# Altium footprint library WR-PHD_Pin Header.PcbLib: 232 footprints (part 4 of 15)
Each footprint in its own frame and in the unit in brackets; x right, y up, seen from the top. Pads: shape width x height; smd on the part's side, far side on the other; paste and mask are expansions set on the pad; w line width, h text height; cw(c..) or ccw(c..) is an arc to the next point about the centre after c.
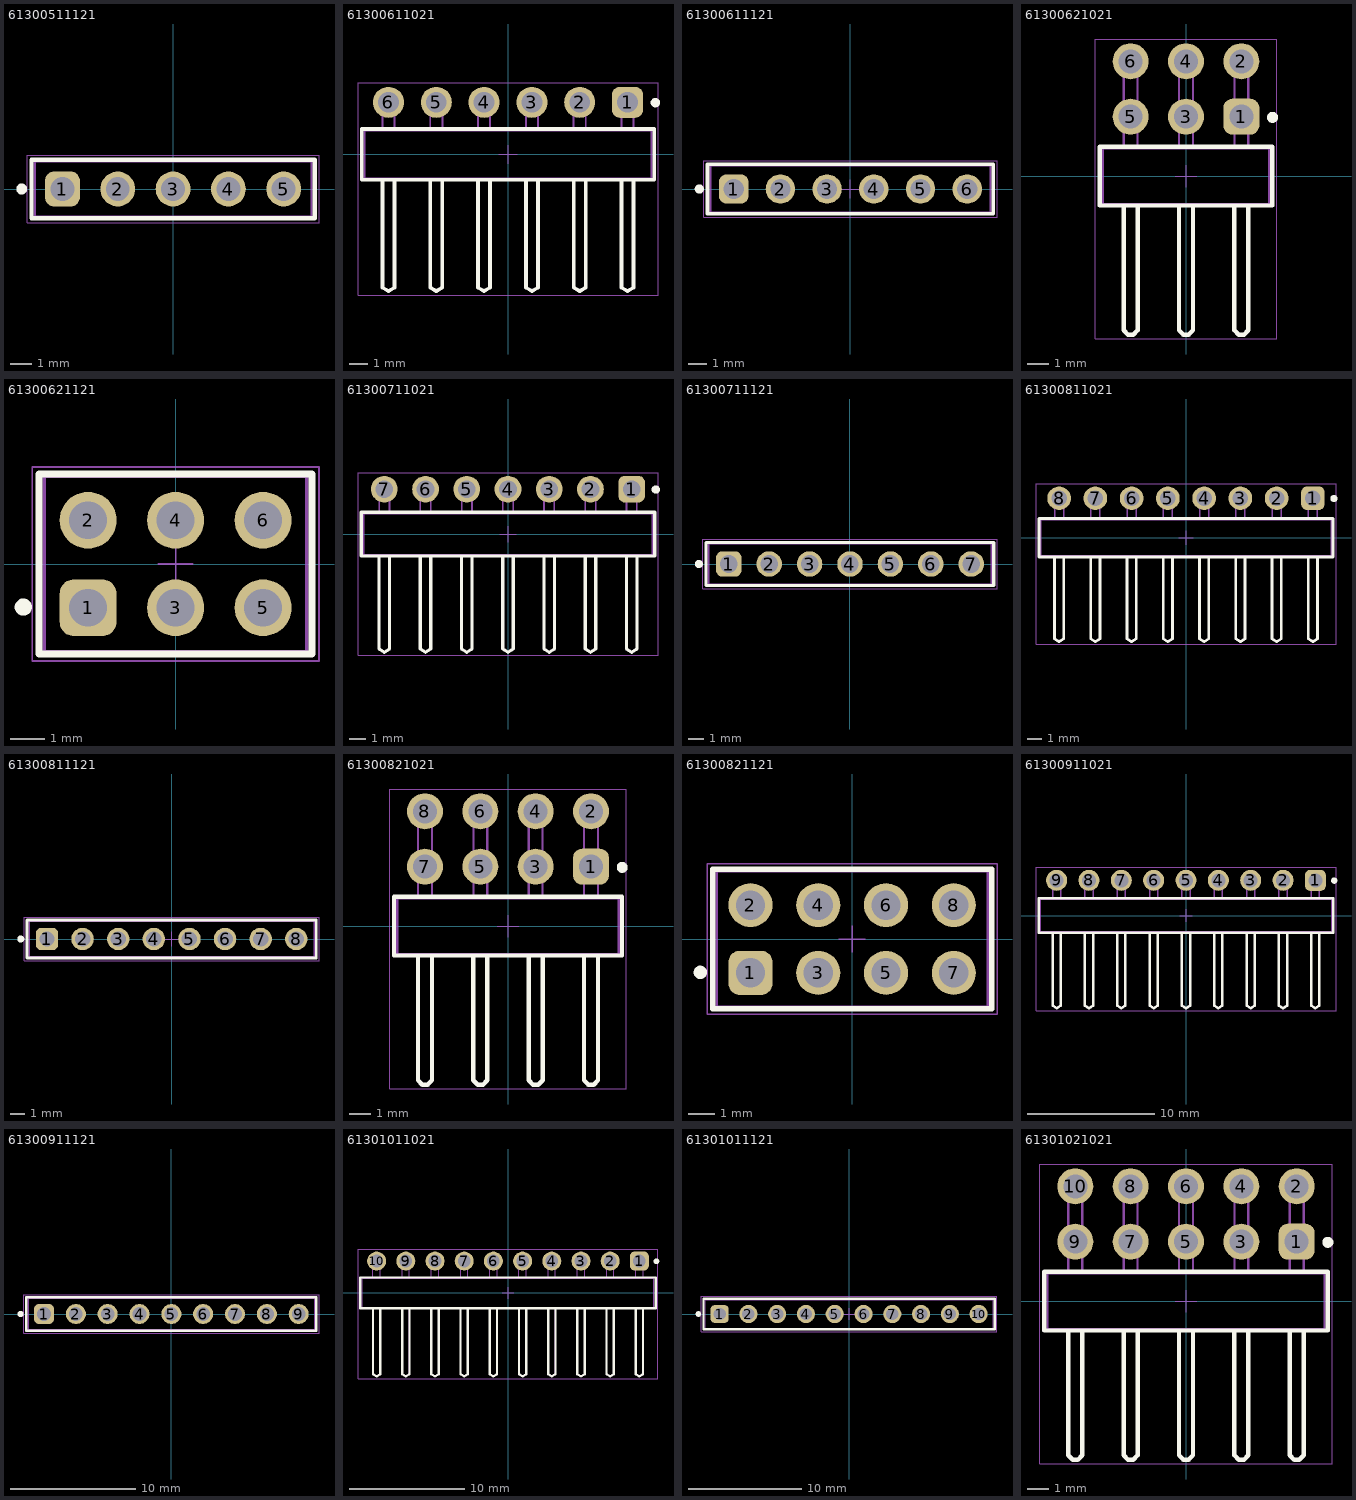
[diagram p3: the footprints below, top view; thin cyan lines are the x and y axes]

## 61300511121 [mm] "Pin Header, pitch 2.54 mm, THT, Vertical, single row, 5p"
height 8.54
pads (5):
  rrect50% 1.6x1.6 hole 1.1: 1(-5.08,0)
  round 1.6 hole 1.1: 2(-2.54,0) 3(0,0) 4(2.54,0) 5(5.08,0)
Top Overlay:
  circle w0.25: c-6.95,0 r0.125
  lines w0.2: -6.5,-1.345 6.5,-1.345 6.5,1.345 -6.5,1.345 -6.5,-1.345
Top Designator:
  text ".Designator" at -7.498,-0.5 h1.5
Top Component Outline:
  lines w0.1: -6.35,-1.27 -6.35,1.27 6.35,1.27 6.35,-1.27 -6.35,-1.27
Top Courtyard:
  lines w0.05: -6.7,-1.545 -6.7,1.545 6.7,1.545 6.7,-1.545 -6.7,-1.545
Top Component Center:
  lines w0.05: -0.5,0 0.5,0 ; 0,-0.5 0,0.5
3D body "61300511121.stp": height 8.57, standoff -2.97, extent -6.35,-1.27 6.35,1.27

## 61300611021 [mm] "Pin Header, pitch 2.54 mm, THT, Angled, single row, 6p"
height 2.54
pads (6):
  rrect50% 1.65x1.65 hole 1.1: 1(6.35,2.77)
  round 1.65 hole 1.1: 2(3.81,2.77) 3(1.27,2.77) 4(-1.27,2.77) 5(-3.81,2.77) 6(-6.35,2.77)
Top Overlay:
  circle w0.25: c7.83,2.75 r0.125
  lines w0.2: -6.67,-1.345 -6.67,-7.07 -6.35,-7.27 -6.03,-7.07 -6.03,-1.345 ; -4.13,-1.345 -4.13,-7.07 -3.81,-7.27 -3.49,-7.07 -3.49,-1.345 ; -1.59,-1.345 -1.59,-7.07 -1.27,-7.27 -0.95,-7.07 -0.95,-1.345 ; 0.95,-1.345 0.95,-7.07 1.27,-7.27 1.59,-7.07 1.59,-1.345 ; 3.49,-1.345 3.49,-7.07 3.81,-7.27 4.13,-7.07 4.13,-1.345 ; 6.03,-1.345 6.03,-7.07 6.35,-7.27 6.67,-7.07 6.67,-1.345 ; -7.77,-1.345 7.77,-1.345 7.77,1.345 -7.77,1.345 -7.77,-1.345
Top Designator:
  text ".Designator" at -7.498,-0.5 h1.5
Top Component Outline:
  lines w0.1: -6.67,-1.27 -6.67,-7.07 -6.35,-7.27 -6.03,-7.07 -6.03,-1.27 ; -6.67,1.27 -6.67,3.09 -6.03,3.09 -6.03,1.27 ; -4.13,-1.27 -4.13,-7.07 -3.81,-7.27 -3.49,-7.07 -3.49,-1.27 ; -4.13,1.27 -4.13,3.09 -3.49,3.09 -3.49,1.27 ; -1.59,-1.27 -1.59,-7.07 -1.27,-7.27 -0.95,-7.07 -0.95,-1.27 ; -1.59,1.27 -1.59,3.09 -0.95,3.09 -0.95,1.27 ; 0.95,-1.27 0.95,-7.07 1.27,-7.27 1.59,-7.07 1.59,-1.27 ; 0.95,1.27 0.95,3.09 1.59,3.09 1.59,1.27 ; 3.49,-1.27 3.49,-7.07 3.81,-7.27 4.13,-7.07 4.13,-1.27 ; 3.49,1.27 3.49,3.09 4.13,3.09 4.13,1.27 ; 6.03,-1.27 6.03,-7.07 6.35,-7.27 6.67,-7.07 6.67,-1.27 ; 6.03,1.27 6.03,3.09 6.67,3.09 6.67,1.27 ; -7.62,-1.27 7.62,-1.27 7.62,1.27 -7.62,1.27 -7.62,-1.27
Top Courtyard:
  lines w0.05: -7.97,-7.47 7.97,-7.47 7.97,3.795 -7.97,3.795 -7.97,-7.47
Top Component Center:
  lines w0.05: -0.5,0 0.5,0 ; 0,-0.5 0,0.5
3D body "61300611021.stp": height 2.58, standoff -2.96, extent -7.62,-7.27 7.62,3.09

## 61300611121 [mm] "Pin Header, pitch 2.54 mm, THT, Vertical, single row, 6p"
height 8.54
pads (6):
  rrect50% 1.6x1.6 hole 1.1: 1(-6.35,0)
  round 1.6 hole 1.1: 2(-3.81,0) 3(-1.27,0) 4(1.27,0) 5(3.81,0) 6(6.35,0)
Top Overlay:
  circle w0.25: c-8.22,0 r0.125
  lines w0.2: -7.77,-1.345 -7.77,1.345 7.77,1.345 7.77,-1.345 -7.77,-1.345
Top Designator:
  text ".Designator" at -7.498,-0.5 h1.5
Top Component Outline:
  lines w0.1: -7.62,-1.27 7.62,-1.27 7.62,1.27 -7.62,1.27 -7.62,-1.27
Top Courtyard:
  lines w0.05: -7.97,-1.545 7.97,-1.545 7.97,1.545 -7.97,1.545 -7.97,-1.545
Top Component Center:
  lines w0.05: -0.5,0 0.5,0 ; 0,-0.5 0,0.5
3D body "61300611121.stp": height 8.57, standoff -2.97, extent -7.62,-1.27 7.62,1.27

## 61300621021 [mm] "Pin Header, pitch 2.54 mm, THT, Angled, dual row, 6p"
height 5.08
pads (6):
  rrect50% 1.65x1.65 hole 1.1: 1(2.54,2.73)
  round 1.65 hole 1.1: 2(2.54,5.27) 3(0,2.73) 4(0,5.27) 5(-2.54,2.73) 6(-2.54,5.27)
Top Overlay:
  circle w0.25: c3.97,2.7 r0.125
  lines w0.2: -2.86,-1.345 -2.86,-7.07 -2.66,-7.27 -2.42,-7.27 -2.22,-7.07 -2.22,-1.345 ; -0.32,-1.345 -0.32,-7.07 -0.12,-7.27 0.12,-7.27 0.32,-7.07 0.32,-1.345 ; 2.22,-1.345 2.22,-7.07 2.42,-7.27 2.66,-7.27 2.86,-7.07 2.86,-1.345 ; -3.96,-1.345 3.96,-1.345 3.96,1.345 -3.96,1.345 -3.96,-1.345
Top Designator:
  text ".Designator" at -7.498,-0.5 h1.5
Top Component Outline:
  lines w0.1: -2.86,-1.27 -2.86,-7.07 -2.66,-7.27 -2.42,-7.27 -2.22,-7.07 -2.22,-1.27 ; -2.86,1.27 -2.86,5.63 -2.22,5.63 -2.22,1.27 ; -2.86,3.09 -2.22,3.09 ; -0.32,-1.27 -0.32,-7.07 -0.12,-7.27 0.12,-7.27 0.32,-7.07 0.32,-1.27 ; -0.32,1.27 -0.32,5.63 0.32,5.63 0.32,1.27 ; -0.32,3.09 0.32,3.09 ; 2.22,-1.27 2.22,-7.07 2.42,-7.27 2.66,-7.27 2.86,-7.07 2.86,-1.27 ; 2.22,1.27 2.22,5.63 2.86,5.63 2.86,1.27 ; 2.22,3.09 2.86,3.09 ; -3.81,-1.27 -3.81,1.27 3.81,1.27 3.81,-1.27 -3.81,-1.27
Top Courtyard:
  lines w0.05: -4.16,-7.47 4.16,-7.47 4.16,6.295 -4.16,6.295 -4.16,-7.47
Top Component Center:
  lines w0.05: -0.5,0 0.5,0 ; 0,-0.5 0,0.5
3D body "61300621021.stp": height 5.12, standoff -2.96, extent -3.81,-7.27 3.81,5.63

## 61300621121 [mm] "Pin Header, pitch 2.54 mm, THT, Vertical, dual row, 6p"
height 8.54
pads (6):
  rrect50% 1.65x1.65 hole 1.1: 1(-2.54,-1.27)
  round 1.65 hole 1.1: 2(-2.54,1.27) 3(0,-1.27) 4(0,1.27) 5(2.54,-1.27) 6(2.54,1.27)
Top Overlay:
  circle w0.25: c-4.42,-1.25 r0.125
  lines w0.2: -3.96,-2.615 -3.96,2.615 3.96,2.615 3.96,-2.615 -3.96,-2.615
Top Designator:
  text ".Designator" at -7.498,-0.5 h1.5
Top Component Outline:
  lines w0.1: -3.81,-2.54 -3.81,2.54 3.81,2.54 3.81,-2.54 -3.81,-2.54
Top Courtyard:
  lines w0.05: -4.16,-2.815 4.16,-2.815 4.16,2.815 -4.16,2.815 -4.16,-2.815
Top Component Center:
  lines w0.05: -0.5,0 0.5,0 ; 0,-0.5 0,0.5
3D body "61300621121.stp": height 8.59, standoff -2.95, extent -3.81,-2.54 3.81,2.54

## 61300711021 [mm] "Pin Header, pitch 2.54 mm, THT, Angled, single row, 7p"
height 2.54
pads (7):
  rrect50% 1.65x1.65 hole 1.1: 1(7.62,2.77)
  round 1.65 hole 1.1: 2(5.08,2.77) 3(2.54,2.77) 4(0,2.77) 5(-2.54,2.77) 6(-5.08,2.77) 7(-7.62,2.77)
Top Overlay:
  circle w0.25: c9.1,2.75 r0.125
  lines w0.2: -7.94,-1.345 -7.94,-7.07 -7.62,-7.27 -7.3,-7.07 -7.3,-1.345 ; -5.4,-1.345 -5.4,-7.07 -5.08,-7.27 -4.76,-7.07 -4.76,-1.345 ; -2.86,-1.345 -2.86,-7.07 -2.54,-7.27 -2.22,-7.07 -2.22,-1.345 ; -0.32,-1.345 -0.32,-7.07 0,-7.27 0.32,-7.07 0.32,-1.345 ; 2.22,-1.345 2.22,-7.07 2.54,-7.27 2.86,-7.07 2.86,-1.345 ; 4.76,-1.345 4.76,-7.07 5.08,-7.27 5.4,-7.07 5.4,-1.345 ; 7.3,-1.345 7.3,-7.07 7.62,-7.27 7.94,-7.07 7.94,-1.345 ; -9.04,-1.345 -9.04,1.345 9.04,1.345 9.04,-1.345 -9.04,-1.345
Top Designator:
  text ".Designator" at -7.498,-0.5 h1.5
Top Component Outline:
  lines w0.1: -7.94,-1.27 -7.94,-7.07 -7.62,-7.27 -7.3,-7.07 -7.3,-1.27 ; -7.94,1.27 -7.94,3.09 -7.3,3.09 -7.3,1.27 ; -5.4,-1.27 -5.4,-7.07 -5.08,-7.27 -4.76,-7.07 -4.76,-1.27 ; -5.4,1.27 -5.4,3.09 -4.76,3.09 -4.76,1.27 ; -2.86,-1.27 -2.86,-7.07 -2.54,-7.27 -2.22,-7.07 -2.22,-1.27 ; -2.86,1.27 -2.86,3.09 -2.22,3.09 -2.22,1.27 ; -0.32,-1.27 -0.32,-7.07 0,-7.27 0.32,-7.07 0.32,-1.27 ; -0.32,1.27 -0.32,3.09 0.32,3.09 0.32,1.27 ; 2.22,-1.27 2.22,-7.07 2.54,-7.27 2.86,-7.07 2.86,-1.27 ; 2.22,1.27 2.22,3.09 2.86,3.09 2.86,1.27 ; 4.76,-1.27 4.76,-7.07 5.08,-7.27 5.4,-7.07 5.4,-1.27 ; 4.76,1.27 4.76,3.09 5.4,3.09 5.4,1.27 ; 7.3,-1.27 7.3,-7.07 7.62,-7.27 7.94,-7.07 7.94,-1.27 ; 7.3,1.27 7.3,3.09 7.94,3.09 7.94,1.27 ; -8.89,-1.27 -8.89,1.27 8.89,1.27 8.89,-1.27 -8.89,-1.27
Top Courtyard:
  lines w0.05: -9.24,-7.47 -9.24,3.795 9.24,3.795 9.24,-7.47 -9.24,-7.47
Top Component Center:
  lines w0.05: -0.5,0 0.5,0 ; 0,-0.5 0,0.5
3D body "61300711021.stp": height 2.58, standoff -2.96, extent -8.89,-7.27 8.89,3.09

## 61300711121 [mm] "Pin Header, pitch 2.54 mm, THT, Vertical, single row, 7p"
height 8.54
pads (7):
  rrect50% 1.6x1.6 hole 1.1: 1(-7.62,0)
  round 1.6 hole 1.1: 2(-5.08,0) 3(-2.54,0) 4(0,0) 5(2.54,0) 6(5.08,0) 7(7.62,0)
Top Overlay:
  circle w0.25: c-9.49,0 r0.125
  lines w0.2: -9.04,-1.345 -9.04,1.345 9.04,1.345 9.04,-1.345 -9.04,-1.345
Top Designator:
  text ".Designator" at -7.498,-0.5 h1.5
Top Component Outline:
  lines w0.1: -8.89,-1.27 8.89,-1.27 8.89,1.27 -8.89,1.27 -8.89,-1.27
Top Courtyard:
  lines w0.05: -9.24,-1.545 9.24,-1.545 9.24,1.545 -9.24,1.545 -9.24,-1.545
Top Component Center:
  lines w0.05: -0.5,0 0.5,0 ; 0,-0.5 0,0.5
3D body "61300711121.stp": height 8.57, standoff -2.97, extent -8.89,-1.27 8.89,1.27

## 61300811021 [mm] "Pin Header, pitch 2.54 mm, THT, Angled, single row, 8p"
height 2.54
pads (8):
  rrect50% 1.65x1.65 hole 1.1: 1(8.89,2.77)
  round 1.65 hole 1.1: 2(6.35,2.77) 3(3.81,2.77) 4(1.27,2.77) 5(-1.27,2.77) 6(-3.81,2.77) 7(-6.35,2.77) 8(-8.89,2.77)
Top Overlay:
  circle w0.25: c10.37,2.75 r0.125
  lines w0.2: -9.21,-1.345 -9.21,-7.07 -8.89,-7.27 -8.57,-7.07 -8.57,-1.345 ; -6.67,-1.345 -6.67,-7.07 -6.35,-7.27 -6.03,-7.07 -6.03,-1.345 ; -4.13,-1.345 -4.13,-7.07 -3.81,-7.27 -3.49,-7.07 -3.49,-1.345 ; -1.59,-1.345 -1.59,-7.07 -1.27,-7.27 -0.95,-7.07 -0.95,-1.345 ; 0.95,-1.345 0.95,-7.07 1.27,-7.27 1.59,-7.07 1.59,-1.345 ; 3.49,-1.345 3.49,-7.07 3.81,-7.27 4.13,-7.07 4.13,-1.345 ; 6.03,-1.345 6.03,-7.07 6.35,-7.27 6.67,-7.07 6.67,-1.345 ; 8.57,-1.345 8.57,-7.07 8.89,-7.27 9.21,-7.07 9.21,-1.345 ; -10.31,-1.345 -10.31,1.345 10.31,1.345 10.31,-1.345 -10.31,-1.345
Top Designator:
  text ".Designator" at -7.498,-0.5 h1.5
Top Component Outline:
  lines w0.1: -9.21,-1.27 -9.21,-7.07 -8.89,-7.27 -8.57,-7.07 -8.57,-1.27 ; -9.21,1.27 -9.21,3.09 -8.57,3.09 -8.57,1.27 ; -6.67,-1.27 -6.67,-7.07 -6.35,-7.27 -6.03,-7.07 -6.03,-1.27 ; -6.67,1.27 -6.67,3.09 -6.03,3.09 -6.03,1.27 ; -4.13,-1.27 -4.13,-7.07 -3.81,-7.27 -3.49,-7.07 -3.49,-1.27 ; -4.13,1.27 -4.13,3.09 -3.49,3.09 -3.49,1.27 ; -1.59,-1.27 -1.59,-7.07 -1.27,-7.27 -0.95,-7.07 -0.95,-1.27 ; -1.59,1.27 -1.59,3.09 -0.95,3.09 -0.95,1.27 ; 0.95,-1.27 0.95,-7.07 1.27,-7.27 1.59,-7.07 1.59,-1.27 ; 0.95,1.27 0.95,3.09 1.59,3.09 1.59,1.27 ; 3.49,-1.27 3.49,-7.07 3.81,-7.27 4.13,-7.07 4.13,-1.27 ; 3.49,1.27 3.49,3.09 4.13,3.09 4.13,1.27 ; 6.03,-1.27 6.03,-7.07 6.35,-7.27 6.67,-7.07 6.67,-1.27 ; 6.03,1.27 6.03,3.09 6.67,3.09 6.67,1.27 ; 8.57,-1.27 8.57,-7.07 8.89,-7.27 9.21,-7.07 9.21,-1.27 ; 8.57,1.27 8.57,3.09 9.21,3.09 9.21,1.27 ; -10.16,-1.27 -10.16,1.27 10.16,1.27 10.16,-1.27 -10.16,-1.27
Top Courtyard:
  lines w0.05: -10.51,-7.47 -10.51,3.795 10.51,3.795 10.51,-7.47 -10.51,-7.47
Top Component Center:
  lines w0.05: -0.5,0 0.5,0 ; 0,-0.5 0,0.5
3D body "61300811021.stp": height 2.58, standoff -2.96, extent -10.16,-7.27 10.16,3.09

## 61300811121 [mm] "Pin Header, pitch 2.54 mm, THT, Vertical, single row, 8p"
height 8.54
pads (8):
  rrect50% 1.6x1.6 hole 1.1: 1(-8.89,0)
  round 1.6 hole 1.1: 2(-6.35,0) 3(-3.81,0) 4(-1.27,0) 5(1.27,0) 6(3.81,0) 7(6.35,0) 8(8.89,0)
Top Overlay:
  circle w0.25: c-10.76,0 r0.125
  lines w0.2: -10.31,-1.345 -10.31,1.345 10.31,1.345 10.31,-1.345 -10.31,-1.345
Top Designator:
  text ".Designator" at -7.498,-0.5 h1.5
Top Component Outline:
  lines w0.1: -10.16,-1.27 10.16,-1.27 10.16,1.27 -10.16,1.27 -10.16,-1.27
Top Courtyard:
  lines w0.05: -10.51,-1.545 10.51,-1.545 10.51,1.545 -10.51,1.545 -10.51,-1.545
Top Component Center:
  lines w0.05: -0.5,0 0.5,0 ; 0,-0.5 0,0.5
3D body "61300811121.stp": height 8.57, standoff -2.97, extent -10.16,-1.27 10.16,1.27

## 61300821021 [mm] "Pin Header, pitch 2.54 mm, THT, Angled, dual row, 8p"
height 5.08
pads (8):
  rrect50% 1.65x1.65 hole 1.1: 1(3.81,2.73)
  round 1.65 hole 1.1: 2(3.81,5.27) 3(1.27,2.73) 4(1.27,5.27) 5(-1.27,2.73) 6(-1.27,5.27) 7(-3.81,2.73) 8(-3.81,5.27)
Top Overlay:
  circle w0.25: c5.24,2.7 r0.125
  lines w0.2: -4.13,-1.345 -4.13,-7.07 -3.93,-7.27 -3.69,-7.27 -3.49,-7.07 -3.49,-1.345 ; -1.59,-1.345 -1.59,-7.07 -1.39,-7.27 -1.15,-7.27 -0.95,-7.07 -0.95,-1.345 ; 0.95,-1.345 0.95,-7.07 1.15,-7.27 1.39,-7.27 1.59,-7.07 1.59,-1.345 ; 3.49,-1.345 3.49,-7.07 3.69,-7.27 3.93,-7.27 4.13,-7.07 4.13,-1.345 ; -5.23,-1.345 5.23,-1.345 5.23,1.345 -5.23,1.345 -5.23,-1.345
Top Designator:
  text ".Designator" at -7.498,-0.5 h1.5
Top Component Outline:
  lines w0.1: -4.13,-1.27 -4.13,-7.07 -3.93,-7.27 -3.69,-7.27 -3.49,-7.07 -3.49,-1.27 ; -4.13,1.27 -4.13,5.63 -3.49,5.63 -3.49,1.27 ; -4.13,3.09 -3.49,3.09 ; -1.59,-1.27 -1.59,-7.07 -1.39,-7.27 -1.15,-7.27 -0.95,-7.07 -0.95,-1.27 ; -1.59,1.27 -1.59,5.63 -0.95,5.63 -0.95,1.27 ; -1.59,3.09 -0.95,3.09 ; 0.95,-1.27 0.95,-7.07 1.15,-7.27 1.39,-7.27 1.59,-7.07 1.59,-1.27 ; 0.95,1.27 0.95,5.63 1.59,5.63 1.59,1.27 ; 0.95,3.09 1.59,3.09 ; 3.49,-1.27 3.49,-7.07 3.69,-7.27 3.93,-7.27 4.13,-7.07 4.13,-1.27 ; 3.49,1.27 3.49,5.63 4.13,5.63 4.13,1.27 ; 3.49,3.09 4.13,3.09 ; -5.08,-1.27 5.08,-1.27 5.08,1.27 -5.08,1.27 -5.08,-1.27
Top Courtyard:
  lines w0.05: -5.43,-7.47 5.43,-7.47 5.43,6.295 -5.43,6.295 -5.43,-7.47
Top Component Center:
  lines w0.05: -0.5,0 0.5,0 ; 0,-0.5 0,0.5
3D body "61300821021.stp": height 5.12, standoff -2.96, extent -5.08,-7.27 5.08,5.63

## 61300821121 [mm] "Pin Header, pitch 2.54 mm, THT, Vertical, dual row, 8p"
height 8.54
pads (8):
  rrect50% 1.65x1.65 hole 1.1: 1(-3.81,-1.27)
  round 1.65 hole 1.1: 2(-3.81,1.27) 3(-1.27,-1.27) 4(-1.27,1.27) 5(1.27,-1.27) 6(1.27,1.27) 7(3.81,-1.27) 8(3.81,1.27)
Top Overlay:
  circle w0.25: c-5.69,-1.25 r0.125
  lines w0.2: -5.23,-2.615 -5.23,2.615 5.23,2.615 5.23,-2.615 -5.23,-2.615
Top Designator:
  text ".Designator" at -7.498,-0.5 h1.5
Top Component Outline:
  lines w0.1: -5.08,-2.54 -5.08,2.54 5.08,2.54 5.08,-2.54 -5.08,-2.54
Top Courtyard:
  lines w0.05: -5.43,-2.815 5.43,-2.815 5.43,2.815 -5.43,2.815 -5.43,-2.815
Top Component Center:
  lines w0.05: -0.5,0 0.5,0 ; 0,-0.5 0,0.5
3D body "61300821121.stp": height 8.59, standoff -2.95, extent -5.08,-2.54 5.08,2.54

## 61300911021 [mm] "Pin Header, pitch 2.54 mm, THT, Angled, single row, 9p"
height 2.54
pads (9):
  rrect50% 1.65x1.65 hole 1.1: 1(10.16,2.77)
  round 1.65 hole 1.1: 2(7.62,2.77) 3(5.08,2.77) 4(2.54,2.77) 5(0,2.77) 6(-2.54,2.77) 7(-5.08,2.77) 8(-7.62,2.77) 9(-10.16,2.77)
Top Overlay:
  circle w0.25: c11.64,2.75 r0.125
  lines w0.2: -10.48,-1.345 -10.48,-7.07 -10.16,-7.27 -9.84,-7.07 -9.84,-1.345 ; -7.94,-1.345 -7.94,-7.07 -7.62,-7.27 -7.3,-7.07 -7.3,-1.345 ; -5.4,-1.345 -5.4,-7.07 -5.08,-7.27 -4.76,-7.07 -4.76,-1.345 ; -2.86,-1.345 -2.86,-7.07 -2.54,-7.27 -2.22,-7.07 -2.22,-1.345 ; -0.32,-1.345 -0.32,-7.07 0,-7.27 0.32,-7.07 0.32,-1.345 ; 2.22,-1.345 2.22,-7.07 2.54,-7.27 2.86,-7.07 2.86,-1.345 ; 4.76,-1.345 4.76,-7.07 5.08,-7.27 5.4,-7.07 5.4,-1.345 ; 7.3,-1.345 7.3,-7.07 7.62,-7.27 7.94,-7.07 7.94,-1.345 ; 9.84,-1.345 9.84,-7.07 10.16,-7.27 10.48,-7.07 10.48,-1.345 ; -11.58,-1.345 11.58,-1.345 11.58,1.345 -11.58,1.345 -11.58,-1.345
Top Designator:
  text ".Designator" at -7.498,-0.5 h1.5
Top Component Outline:
  lines w0.1: -10.48,-1.27 -10.48,-7.07 -10.16,-7.27 -9.84,-7.07 -9.84,-1.27 ; -10.48,1.27 -10.48,3.09 -9.84,3.09 -9.84,1.27 ; -7.94,-1.27 -7.94,-7.07 -7.62,-7.27 -7.3,-7.07 -7.3,-1.27 ; -7.94,1.27 -7.94,3.09 -7.3,3.09 -7.3,1.27 ; -5.4,-1.27 -5.4,-7.07 -5.08,-7.27 -4.76,-7.07 -4.76,-1.27 ; -5.4,1.27 -5.4,3.09 -4.76,3.09 -4.76,1.27 ; -2.86,-1.27 -2.86,-7.07 -2.54,-7.27 -2.22,-7.07 -2.22,-1.27 ; -2.86,1.27 -2.86,3.09 -2.22,3.09 -2.22,1.27 ; -0.32,-1.27 -0.32,-7.07 0,-7.27 0.32,-7.07 0.32,-1.27 ; -0.32,1.27 -0.32,3.09 0.32,3.09 0.32,1.27 ; 2.22,-1.27 2.22,-7.07 2.54,-7.27 2.86,-7.07 2.86,-1.27 ; 2.22,1.27 2.22,3.09 2.86,3.09 2.86,1.27 ; 4.76,-1.27 4.76,-7.07 5.08,-7.27 5.4,-7.07 5.4,-1.27 ; 4.76,1.27 4.76,3.09 5.4,3.09 5.4,1.27 ; 7.3,-1.27 7.3,-7.07 7.62,-7.27 7.94,-7.07 7.94,-1.27 ; 7.3,1.27 7.3,3.09 7.94,3.09 7.94,1.27 ; 9.84,-1.27 9.84,-7.07 10.16,-7.27 10.48,-7.07 10.48,-1.27 ; 9.84,1.27 9.84,3.09 10.48,3.09 10.48,1.27 ; -11.43,-1.27 11.43,-1.27 11.43,1.27 -11.43,1.27 -11.43,-1.27
Top Courtyard:
  lines w0.05: -11.78,-7.47 11.78,-7.47 11.78,3.795 -11.78,3.795 -11.78,-7.47
Top Component Center:
  lines w0.05: -0.5,0 0.5,0 ; 0,-0.5 0,0.5
3D body "61300911021.stp": height 2.58, standoff -2.96, extent -11.43,-7.27 11.43,3.09

## 61300911121 [mm] "Pin Header, pitch 2.54 mm, THT, Vertical, single row, 9p"
height 8.54
pads (9):
  rrect50% 1.6x1.6 hole 1.1: 1(-10.16,0)
  round 1.6 hole 1.1: 2(-7.62,0) 3(-5.08,0) 4(-2.54,0) 5(0,0) 6(2.54,0) 7(5.08,0) 8(7.62,0) 9(10.16,0)
Top Overlay:
  circle w0.25: c-12.03,0 r0.125
  lines w0.2: -11.58,-1.345 -11.58,1.345 11.58,1.345 11.58,-1.345 -11.58,-1.345
Top Designator:
  text ".Designator" at -7.498,-0.5 h1.5
Top Component Outline:
  lines w0.1: -11.43,-1.27 11.43,-1.27 11.43,1.27 -11.43,1.27 -11.43,-1.27
Top Courtyard:
  lines w0.05: -11.78,-1.545 11.78,-1.545 11.78,1.545 -11.78,1.545 -11.78,-1.545
Top Component Center:
  lines w0.05: -0.5,0 0.5,0 ; 0,-0.5 0,0.5
3D body "61300911121.stp": height 8.57, standoff -2.97, extent -11.43,-1.27 11.43,1.27

## 61301011021 [mm] "Pin Header, pitch 2.54 mm, THT, Angled, single row, 10p"
height 2.54
pads (10):
  rrect50% 1.65x1.65 hole 1.1: 1(11.43,2.77)
  round 1.65 hole 1.1: 2(8.89,2.77) 3(6.35,2.77) 4(3.81,2.77) 5(1.27,2.77) 6(-1.27,2.77) 7(-3.81,2.77) 8(-6.35,2.77) 9(-8.89,2.77) 10(-11.43,2.77)
Top Overlay:
  circle w0.25: c12.91,2.75 r0.125
  lines w0.2: -11.75,-1.345 -11.75,-7.07 -11.43,-7.27 -11.11,-7.07 -11.11,-1.345 ; -9.21,-1.345 -9.21,-7.07 -8.89,-7.27 -8.57,-7.07 -8.57,-1.345 ; -6.67,-1.345 -6.67,-7.07 -6.35,-7.27 -6.03,-7.07 -6.03,-1.345 ; -4.13,-1.345 -4.13,-7.07 -3.81,-7.27 -3.49,-7.07 -3.49,-1.345 ; -1.59,-1.345 -1.59,-7.07 -1.27,-7.27 -0.95,-7.07 -0.95,-1.345 ; 0.95,-1.345 0.95,-7.07 1.27,-7.27 1.59,-7.07 1.59,-1.345 ; 3.49,-1.345 3.49,-7.07 3.81,-7.27 4.13,-7.07 4.13,-1.345 ; 6.03,-1.345 6.03,-7.07 6.35,-7.27 6.67,-7.07 6.67,-1.345 ; 8.57,-1.345 8.57,-7.07 8.89,-7.27 9.21,-7.07 9.21,-1.345 ; 11.11,-1.345 11.11,-7.07 11.43,-7.27 11.75,-7.07 11.75,-1.345 ; -12.85,-1.345 12.85,-1.345 12.85,1.345 -12.85,1.345 -12.85,-1.345
Top Designator:
  text ".Designator" at -7.498,-0.5 h1.5
Top Component Outline:
  lines w0.1: -11.75,-1.27 -11.75,-7.07 -11.43,-7.27 -11.11,-7.07 -11.11,-1.27 ; -11.75,1.27 -11.75,3.09 -11.11,3.09 -11.11,1.27 ; -9.21,-1.27 -9.21,-7.07 -8.89,-7.27 -8.57,-7.07 -8.57,-1.27 ; -9.21,1.27 -9.21,3.09 -8.57,3.09 -8.57,1.27 ; -6.67,-1.27 -6.67,-7.07 -6.35,-7.27 -6.03,-7.07 -6.03,-1.27 ; -6.67,1.27 -6.67,3.09 -6.03,3.09 -6.03,1.27 ; -4.13,-1.27 -4.13,-7.07 -3.81,-7.27 -3.49,-7.07 -3.49,-1.27 ; -4.13,1.27 -4.13,3.09 -3.49,3.09 -3.49,1.27 ; -1.59,-1.27 -1.59,-7.07 -1.27,-7.27 -0.95,-7.07 -0.95,-1.27 ; -1.59,1.27 -1.59,3.09 -0.95,3.09 -0.95,1.27 ; 0.95,-1.27 0.95,-7.07 1.27,-7.27 1.59,-7.07 1.59,-1.27 ; 0.95,1.27 0.95,3.09 1.59,3.09 1.59,1.27 ; 3.49,-1.27 3.49,-7.07 3.81,-7.27 4.13,-7.07 4.13,-1.27 ; 3.49,1.27 3.49,3.09 4.13,3.09 4.13,1.27 ; 6.03,-1.27 6.03,-7.07 6.35,-7.27 6.67,-7.07 6.67,-1.27 ; 6.03,1.27 6.03,3.09 6.67,3.09 6.67,1.27 ; 8.57,-1.27 8.57,-7.07 8.89,-7.27 9.21,-7.07 9.21,-1.27 ; 8.57,1.27 8.57,3.09 9.21,3.09 9.21,1.27 ; 11.11,-1.27 11.11,-7.07 11.43,-7.27 11.75,-7.07 11.75,-1.27 ; 11.11,1.27 11.11,3.09 11.75,3.09 11.75,1.27 ; -12.7,-1.27 12.7,-1.27 12.7,1.27 -12.7,1.27 -12.7,-1.27
Top Courtyard:
  lines w0.05: -13.05,-7.47 13.05,-7.47 13.05,3.795 -13.05,3.795 -13.05,-7.47
Top Component Center:
  lines w0.05: -0.5,0 0.5,0 ; 0,-0.5 0,0.5
3D body "61301011021.stp": height 2.58, standoff -2.96, extent -12.7,-7.27 12.7,3.09

## 61301011121 [mm] "Pin Header, pitch 2.54 mm, THT, Vertical, single row, 10p"
height 8.54
pads (10):
  rrect50% 1.6x1.6 hole 1.1: 1(-11.43,0)
  round 1.6 hole 1.1: 2(-8.89,0) 3(-6.35,0) 4(-3.81,0) 5(-1.27,0) 6(1.27,0) 7(3.81,0) 8(6.35,0) 9(8.89,0) 10(11.43,0)
Top Overlay:
  circle w0.25: c-13.3,0 r0.125
  lines w0.2: -12.85,-1.345 12.85,-1.345 12.85,1.345 -12.85,1.345 -12.85,-1.345
Top Designator:
  text ".Designator" at -7.498,-0.5 h1.5
Top Component Outline:
  lines w0.1: -12.7,-1.27 -12.7,1.27 12.7,1.27 12.7,-1.27 -12.7,-1.27
Top Courtyard:
  lines w0.05: -13.05,-1.545 -13.05,1.545 13.05,1.545 13.05,-1.545 -13.05,-1.545
Top Component Center:
  lines w0.05: -0.5,0 0.5,0 ; 0,-0.5 0,0.5
3D body "61301011121.stp": height 8.57, standoff -2.97, extent -12.7,-1.27 12.7,1.27

## 61301021021 [mm] "Pin Header, pitch 2.54 mm, THT, Angled, dual row, 10p"
height 5.08
pads (10):
  rrect50% 1.65x1.65 hole 1.1: 1(5.08,2.73)
  round 1.65 hole 1.1: 2(5.08,5.27) 3(2.54,2.73) 4(2.54,5.27) 5(0,2.73) 6(0,5.27) 7(-2.54,2.73) 8(-2.54,5.27) 9(-5.08,2.73) 10(-5.08,5.27)
Top Overlay:
  circle w0.25: c6.51,2.7 r0.125
  lines w0.2: -5.4,-1.345 -5.4,-7.07 -5.2,-7.27 -4.96,-7.27 -4.76,-7.07 -4.76,-1.345 ; -2.86,-1.345 -2.86,-7.07 -2.66,-7.27 -2.42,-7.27 -2.22,-7.07 -2.22,-1.345 ; -0.32,-1.345 -0.32,-7.07 -0.12,-7.27 0.12,-7.27 0.32,-7.07 0.32,-1.345 ; 2.22,-1.345 2.22,-7.07 2.42,-7.27 2.66,-7.27 2.86,-7.07 2.86,-1.345 ; 4.76,-1.345 4.76,-7.07 4.96,-7.27 5.2,-7.27 5.4,-7.07 5.4,-1.345 ; -6.5,-1.345 -6.5,1.345 6.5,1.345 6.5,-1.345 -6.5,-1.345
Top Designator:
  text ".Designator" at -7.498,-0.5 h1.5
Top Component Outline:
  lines w0.1: -5.4,-1.27 -5.4,-7.07 -5.2,-7.27 -4.96,-7.27 -4.76,-7.07 -4.76,-1.27 ; -5.4,1.27 -5.4,5.63 -4.76,5.63 -4.76,1.27 ; -5.4,3.09 -4.76,3.09 ; -2.86,-1.27 -2.86,-7.07 -2.66,-7.27 -2.42,-7.27 -2.22,-7.07 -2.22,-1.27 ; -2.86,1.27 -2.86,5.63 -2.22,5.63 -2.22,1.27 ; -2.86,3.09 -2.22,3.09 ; -0.32,-1.27 -0.32,-7.07 -0.12,-7.27 0.12,-7.27 0.32,-7.07 0.32,-1.27 ; -0.32,1.27 -0.32,5.63 0.32,5.63 0.32,1.27 ; -0.32,3.09 0.32,3.09 ; 2.22,-1.27 2.22,-7.07 2.42,-7.27 2.66,-7.27 2.86,-7.07 2.86,-1.27 ; 2.22,1.27 2.22,5.63 2.86,5.63 2.86,1.27 ; 2.22,3.09 2.86,3.09 ; 4.76,-1.27 4.76,-7.07 4.96,-7.27 5.2,-7.27 5.4,-7.07 5.4,-1.27 ; 4.76,1.27 4.76,5.63 5.4,5.63 5.4,1.27 ; 4.76,3.09 5.4,3.09 ; -6.35,-1.27 -6.35,1.27 6.35,1.27 6.35,-1.27 -6.35,-1.27
Top Courtyard:
  lines w0.05: -6.7,-7.47 -6.7,6.295 6.7,6.295 6.7,-7.47 -6.7,-7.47
Top Component Center:
  lines w0.05: -0.5,0 0.5,0 ; 0,-0.5 0,0.5
3D body "61301021021.stp": height 5.12, standoff -2.96, extent -6.35,-7.27 6.35,5.63